# Altium schematic symbol library kmilo17pet-LT_PMIC_LT.SchLib: 2252 symbols (part 68 of 124)
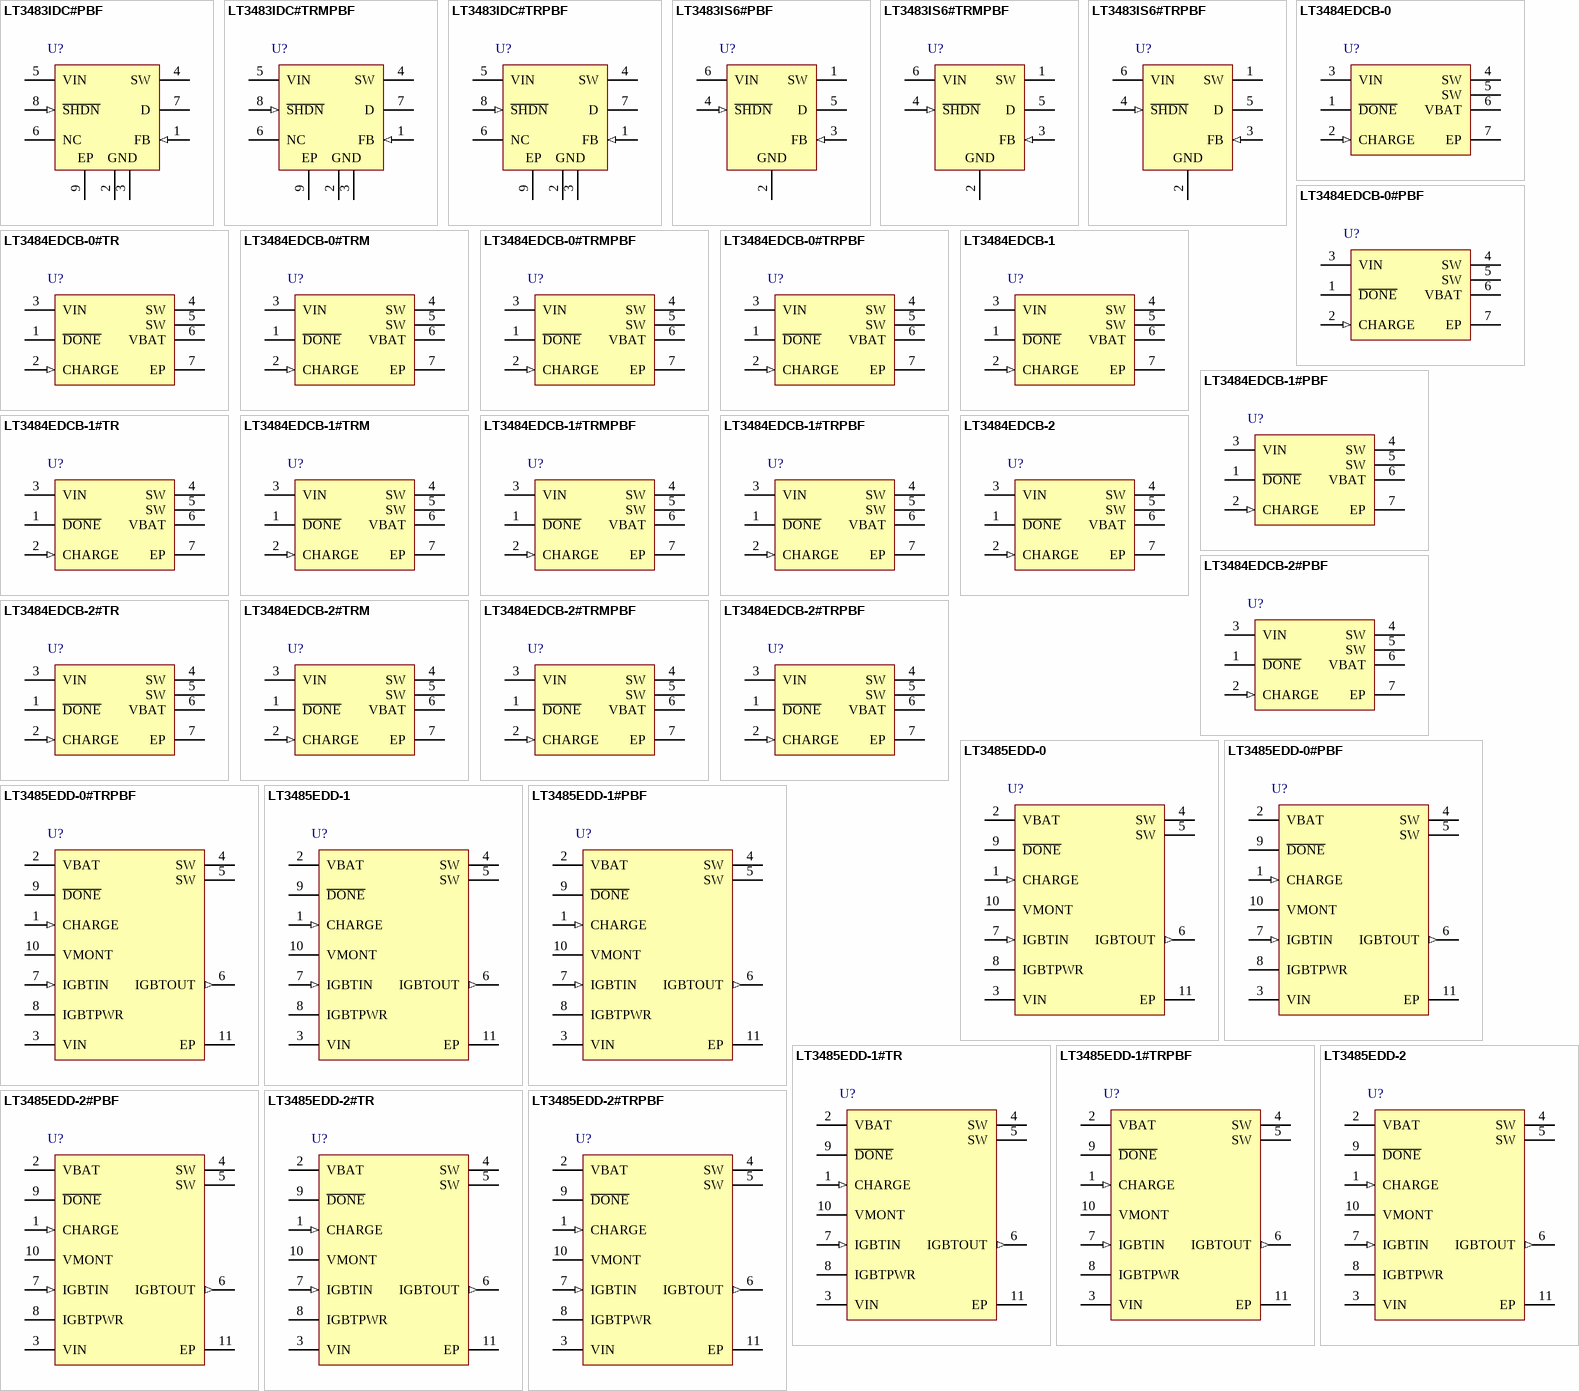
[diagram p138: symbols LT3483IDC#PBF to LT3485EDD-2#TRPBF]

## LT3484EDCB-2#TR
designator U?
Photoflash Capacitor Charger, 6-pin SON (DCB-6), -40 to 85 degC, Tape and Reel; Manufacturer: Linear Technology; PartNumber: LT3484EDCB-2#TR; Number of Outputs: 1; PackageReference: DCB-6; PackageDescription: 6-Pin Plastic DFN, Body 2 x 3 mm, Pitch 0.5 mm; Supplier 1: Digi-Key; Supplier Part Number 1: LT3484EDCB-2#TR-ND; RoHS: FALSE
footprint LT-DCB-6_V (SON, 6-Leads, Body 3x2mm, Pitch 0.5mm, Thermal Pad 1.65x1.35mm)
pins: 1 ~{DONE} (oc) "Open NPN Collector Indication Pin. When target output voltage is reached, NPN turns on, pulling Pin 1 low. This pin needs a pull-up resistor or current source.", 2 CHARGE (in) "Charge Pin. A low (<0.3V) to high (>1V) transition on this pin puts the part into power delivery mode. Once the target voltage is reached, the part will stop charging the output. Toggle this pin to start charging again. (See Datasheet)", 3 VIN (power) "Input Supply Pin. Must be locally bypassed with a good quality ceramic capacitor. Input supply must be 2.5V or higher.", 4 SW (power) "Switch Pins. These are the collector of the internal NPN Power switch. Tie these pins together on the PC Board. Minimize the metal trace area connected to these pins to minimize EMI. Tie one side of the primary of the (See Datasheet)", 5 SW (power) "Switch Pins. These are the collector of the internal NPN Power switch. Tie these pins together on the PC Board. Minimize the metal trace area connected to these pins to minimize EMI. Tie one side of the primary of the (See Datasheet)", 6 VBAT (power) "Battery Supply Pin. Must be locally bypassed with a good quality ceramic capacitor. Battery supply must be 1.7V or higher. The other terminal of the transformer primary must be connected to VBAT.", 7 EP (power) "Ground. Tie directly to local ground plane."

## LT3484EDCB-2#TRM
designator U?
Photoflash Capacitor Charger, 6-pin SON (DCB-6), -40 to 85 degC, Mini Tape and Reel; Manufacturer: Linear Technology; PartNumber: LT3484EDCB-2#TRM; Number of Outputs: 1; PackageReference: DCB-6; PackageDescription: 6-Pin Plastic DFN, Body 2 x 3 mm, Pitch 0.5 mm; Supplier 1: Digi-Key; Supplier Part Number 1: LT3484EDCB-2#TRM-ND; RoHS: FALSE
footprint LT-DCB-6_V (SON, 6-Leads, Body 3x2mm, Pitch 0.5mm, Thermal Pad 1.65x1.35mm)
pins: 1 ~{DONE} (oc) "Open NPN Collector Indication Pin. When target output voltage is reached, NPN turns on, pulling Pin 1 low. This pin needs a pull-up resistor or current source.", 2 CHARGE (in) "Charge Pin. A low (<0.3V) to high (>1V) transition on this pin puts the part into power delivery mode. Once the target voltage is reached, the part will stop charging the output. Toggle this pin to start charging again. (See Datasheet)", 3 VIN (power) "Input Supply Pin. Must be locally bypassed with a good quality ceramic capacitor. Input supply must be 2.5V or higher.", 4 SW (power) "Switch Pins. These are the collector of the internal NPN Power switch. Tie these pins together on the PC Board. Minimize the metal trace area connected to these pins to minimize EMI. Tie one side of the primary of the (See Datasheet)", 5 SW (power) "Switch Pins. These are the collector of the internal NPN Power switch. Tie these pins together on the PC Board. Minimize the metal trace area connected to these pins to minimize EMI. Tie one side of the primary of the (See Datasheet)", 6 VBAT (power) "Battery Supply Pin. Must be locally bypassed with a good quality ceramic capacitor. Battery supply must be 1.7V or higher. The other terminal of the transformer primary must be connected to VBAT.", 7 EP (power) "Ground. Tie directly to local ground plane."

## LT3484EDCB-2#TRMPBF
designator U?
Photoflash Capacitor Charger, 6-pin SON (DCB-6), -40 to 85 degC, Pb-Free, Mini Tape and Reel; Manufacturer: Linear Technology; PartNumber: LT3484EDCB-2#TRMPBF; Number of Outputs: 1; PackageReference: DCB-6; PackageDescription: 6-Pin Plastic DFN, Body 2 x 3 mm, Pitch 0.5 mm; Supplier 1: Digi-Key; Supplier Part Number 1: LT3484EDCB-2#TRMPBFTR-ND; RoHS: TRUE
footprint LT-DCB-6_V (SON, 6-Leads, Body 3x2mm, Pitch 0.5mm, Thermal Pad 1.65x1.35mm)
pins: 1 ~{DONE} (oc) "Open NPN Collector Indication Pin. When target output voltage is reached, NPN turns on, pulling Pin 1 low. This pin needs a pull-up resistor or current source.", 2 CHARGE (in) "Charge Pin. A low (<0.3V) to high (>1V) transition on this pin puts the part into power delivery mode. Once the target voltage is reached, the part will stop charging the output. Toggle this pin to start charging again. (See Datasheet)", 3 VIN (power) "Input Supply Pin. Must be locally bypassed with a good quality ceramic capacitor. Input supply must be 2.5V or higher.", 4 SW (power) "Switch Pins. These are the collector of the internal NPN Power switch. Tie these pins together on the PC Board. Minimize the metal trace area connected to these pins to minimize EMI. Tie one side of the primary of the (See Datasheet)", 5 SW (power) "Switch Pins. These are the collector of the internal NPN Power switch. Tie these pins together on the PC Board. Minimize the metal trace area connected to these pins to minimize EMI. Tie one side of the primary of the (See Datasheet)", 6 VBAT (power) "Battery Supply Pin. Must be locally bypassed with a good quality ceramic capacitor. Battery supply must be 1.7V or higher. The other terminal of the transformer primary must be connected to VBAT.", 7 EP (power) "Ground. Tie directly to local ground plane."

## LT3484EDCB-2#TRPBF
designator U?
Photoflash Capacitor Charger, 6-pin SON (DCB-6), -40 to 85 degC, Pb-Free, Tape and Reel; Manufacturer: Linear Technology; PartNumber: LT3484EDCB-2#TRPBF; Number of Outputs: 1; PackageReference: DCB-6; PackageDescription: 6-Pin Plastic DFN, Body 2 x 3 mm, Pitch 0.5 mm; Supplier 1: Digi-Key; Supplier Part Number 1: LT3484EDCB-2#TRPBF-ND; RoHS: TRUE
footprint LT-DCB-6_V (SON, 6-Leads, Body 3x2mm, Pitch 0.5mm, Thermal Pad 1.65x1.35mm)
pins: 1 ~{DONE} (oc) "Open NPN Collector Indication Pin. When target output voltage is reached, NPN turns on, pulling Pin 1 low. This pin needs a pull-up resistor or current source.", 2 CHARGE (in) "Charge Pin. A low (<0.3V) to high (>1V) transition on this pin puts the part into power delivery mode. Once the target voltage is reached, the part will stop charging the output. Toggle this pin to start charging again. (See Datasheet)", 3 VIN (power) "Input Supply Pin. Must be locally bypassed with a good quality ceramic capacitor. Input supply must be 2.5V or higher.", 4 SW (power) "Switch Pins. These are the collector of the internal NPN Power switch. Tie these pins together on the PC Board. Minimize the metal trace area connected to these pins to minimize EMI. Tie one side of the primary of the (See Datasheet)", 5 SW (power) "Switch Pins. These are the collector of the internal NPN Power switch. Tie these pins together on the PC Board. Minimize the metal trace area connected to these pins to minimize EMI. Tie one side of the primary of the (See Datasheet)", 6 VBAT (power) "Battery Supply Pin. Must be locally bypassed with a good quality ceramic capacitor. Battery supply must be 1.7V or higher. The other terminal of the transformer primary must be connected to VBAT.", 7 EP (power) "Ground. Tie directly to local ground plane."

## LT3485EDD-0
designator U?
Photoflash Capacitor Chargers with Output Voltage Monitor and Integrated IGBT Drive, 10-pin SON (DD-10), -40 to 85 degC; Manufacturer: Linear Technology; PartNumber: LT3485EDD-0; Number of Outputs: 1; PackageReference: DD-10; PackageDescription: 10-Pin Plastic DFN, Body 3 x 3 mm, Pitch 0.5 mm; RoHS: FALSE
footprint LT-DD-10_V (SON, 10-Leads, Body 3x3mm, Pitch 0.5mm, Thermal Pad 2.38x1.65mm)
pins: 1 CHARGE (in) "Charge Pin. A low (<0.3V) to high (>1V) transition on this pin puts the part into power delivery mode. Once the target voltage is reached, the part will stop charging the output. Toggle this pin to start charging again. (See Datasheet)", 2 VBAT (power) "Battery Supply Pin. Must be locally bypassed with a good quality ceramic capacitor. Battery supply must be 1.7V or higher.", 3 VIN (power) "Input Supply Pin. Must be locally bypassed with a good quality ceramic capacitor. Input supply must be 2.5V or higher.", 4 SW (power) "Switch Pin. This is the collector of the internal NPN power switch. Minimize the metal trace area connected to this pin to minimize EMI. Tie one side of the primary of the transformer to this pin. The target output voltage (See Datasheet)", 5 SW (power) "Switch Pin. This is the collector of the internal NPN power switch. Minimize the metal trace area connected to this pin to minimize EMI. Tie one side of the primary of the transformer to this pin. The target output voltage (See Datasheet)", 6 IGBTOUT (out) "Output Drive for IGBT Gate. Connect this pin to the gate of the IGBT.", 7 IGBTIN (in) "Logic Input Pin for IGBT Drive. When this pin is driven higher than 1.5V, the IGBT output pin goes high. When the pin is below 0.3V, the output is low.", 8 IGBTPWR (power) "Input Supply Pin. Must be locally bypassed with a good quality ceramic capacitor. Input supply must be 0.1V higher than the turn-on voltage for the IGBT.", 9 ~{DONE} (oc) "Open NPN Collector Indication Pin. When target output voltage is reached, NPN turns on. This pin needs a pull-up resistor or current source.", 10 VMONT (power) "Supplies a voltage proportional to the output voltage where 1V is the end of charge voltage. Only valid while the part is charging.", 11 EP (power) "Ground. Tie directly to local ground plane"

## LT3485EDD-0#PBF
designator U?
Photoflash Capacitor Chargers with Output Voltage Monitor and Integrated IGBT Drive, 10-pin SON (DD-10), -40 to 85 degC, Pb-Free; Manufacturer: Linear Technology; PartNumber: LT3485EDD-0#PBF; Number of Outputs: 1; PackageReference: DD-10; PackageDescription: 10-Pin Plastic DFN, Body 3 x 3 mm, Pitch 0.5 mm; Supplier 1: Digi-Key; Supplier Part Number 1: LT3485EDD-0#PBF-ND; RoHS: TRUE
footprint LT-DD-10_V (SON, 10-Leads, Body 3x3mm, Pitch 0.5mm, Thermal Pad 2.38x1.65mm)
pins: 1 CHARGE (in) "Charge Pin. A low (<0.3V) to high (>1V) transition on this pin puts the part into power delivery mode. Once the target voltage is reached, the part will stop charging the output. Toggle this pin to start charging again. (See Datasheet)", 2 VBAT (power) "Battery Supply Pin. Must be locally bypassed with a good quality ceramic capacitor. Battery supply must be 1.7V or higher.", 3 VIN (power) "Input Supply Pin. Must be locally bypassed with a good quality ceramic capacitor. Input supply must be 2.5V or higher.", 4 SW (power) "Switch Pin. This is the collector of the internal NPN power switch. Minimize the metal trace area connected to this pin to minimize EMI. Tie one side of the primary of the transformer to this pin. The target output voltage (See Datasheet)", 5 SW (power) "Switch Pin. This is the collector of the internal NPN power switch. Minimize the metal trace area connected to this pin to minimize EMI. Tie one side of the primary of the transformer to this pin. The target output voltage (See Datasheet)", 6 IGBTOUT (out) "Output Drive for IGBT Gate. Connect this pin to the gate of the IGBT.", 7 IGBTIN (in) "Logic Input Pin for IGBT Drive. When this pin is driven higher than 1.5V, the IGBT output pin goes high. When the pin is below 0.3V, the output is low.", 8 IGBTPWR (power) "Input Supply Pin. Must be locally bypassed with a good quality ceramic capacitor. Input supply must be 0.1V higher than the turn-on voltage for the IGBT.", 9 ~{DONE} (oc) "Open NPN Collector Indication Pin. When target output voltage is reached, NPN turns on. This pin needs a pull-up resistor or current source.", 10 VMONT (power) "Supplies a voltage proportional to the output voltage where 1V is the end of charge voltage. Only valid while the part is charging.", 11 EP (power) "Ground. Tie directly to local ground plane"

## LT3485EDD-0#TRPBF
designator U?
Photoflash Capacitor Chargers with Output Voltage Monitor and Integrated IGBT Drive, 10-pin SON (DD-10), -40 to 85 degC, Pb-Free, Tape and Reel; Manufacturer: Linear Technology; PartNumber: LT3485EDD-0#TRPBF; Number of Outputs: 1; PackageReference: DD-10; PackageDescription: 10-Pin Plastic DFN, Body 3 x 3 mm, Pitch 0.5 mm; Supplier 1: Digi-Key; Supplier Part Number 1: LT3485EDD-0#TRPBF-ND; RoHS: TRUE
footprint LT-DD-10_V (SON, 10-Leads, Body 3x3mm, Pitch 0.5mm, Thermal Pad 2.38x1.65mm)
pins: 1 CHARGE (in) "Charge Pin. A low (<0.3V) to high (>1V) transition on this pin puts the part into power delivery mode. Once the target voltage is reached, the part will stop charging the output. Toggle this pin to start charging again. (See Datasheet)", 2 VBAT (power) "Battery Supply Pin. Must be locally bypassed with a good quality ceramic capacitor. Battery supply must be 1.7V or higher.", 3 VIN (power) "Input Supply Pin. Must be locally bypassed with a good quality ceramic capacitor. Input supply must be 2.5V or higher.", 4 SW (power) "Switch Pin. This is the collector of the internal NPN power switch. Minimize the metal trace area connected to this pin to minimize EMI. Tie one side of the primary of the transformer to this pin. The target output voltage (See Datasheet)", 5 SW (power) "Switch Pin. This is the collector of the internal NPN power switch. Minimize the metal trace area connected to this pin to minimize EMI. Tie one side of the primary of the transformer to this pin. The target output voltage (See Datasheet)", 6 IGBTOUT (out) "Output Drive for IGBT Gate. Connect this pin to the gate of the IGBT.", 7 IGBTIN (in) "Logic Input Pin for IGBT Drive. When this pin is driven higher than 1.5V, the IGBT output pin goes high. When the pin is below 0.3V, the output is low.", 8 IGBTPWR (power) "Input Supply Pin. Must be locally bypassed with a good quality ceramic capacitor. Input supply must be 0.1V higher than the turn-on voltage for the IGBT.", 9 ~{DONE} (oc) "Open NPN Collector Indication Pin. When target output voltage is reached, NPN turns on. This pin needs a pull-up resistor or current source.", 10 VMONT (power) "Supplies a voltage proportional to the output voltage where 1V is the end of charge voltage. Only valid while the part is charging.", 11 EP (power) "Ground. Tie directly to local ground plane"

## LT3485EDD-1
designator U?
Photoflash Capacitor Chargers with Output Voltage Monitor and Integrated IGBT Drive, 10-pin SON (DD-10), -40 to 85 degC; Manufacturer: Linear Technology; PartNumber: LT3485EDD-1; Number of Outputs: 1; PackageReference: DD-10; PackageDescription: 10-Pin Plastic DFN, Body 3 x 3 mm, Pitch 0.5 mm; RoHS: FALSE
footprint LT-DD-10_V (SON, 10-Leads, Body 3x3mm, Pitch 0.5mm, Thermal Pad 2.38x1.65mm)
pins: 1 CHARGE (in) "Charge Pin. A low (<0.3V) to high (>1V) transition on this pin puts the part into power delivery mode. Once the target voltage is reached, the part will stop charging the output. Toggle this pin to start charging again. (See Datasheet)", 2 VBAT (power) "Battery Supply Pin. Must be locally bypassed with a good quality ceramic capacitor. Battery supply must be 1.7V or higher.", 3 VIN (power) "Input Supply Pin. Must be locally bypassed with a good quality ceramic capacitor. Input supply must be 2.5V or higher.", 4 SW (power) "Switch Pin. This is the collector of the internal NPN power switch. Minimize the metal trace area connected to this pin to minimize EMI. Tie one side of the primary of the transformer to this pin. The target output voltage (See Datasheet)", 5 SW (power) "Switch Pin. This is the collector of the internal NPN power switch. Minimize the metal trace area connected to this pin to minimize EMI. Tie one side of the primary of the transformer to this pin. The target output voltage (See Datasheet)", 6 IGBTOUT (out) "Output Drive for IGBT Gate. Connect this pin to the gate of the IGBT.", 7 IGBTIN (in) "Logic Input Pin for IGBT Drive. When this pin is driven higher than 1.5V, the IGBT output pin goes high. When the pin is below 0.3V, the output is low.", 8 IGBTPWR (power) "Input Supply Pin. Must be locally bypassed with a good quality ceramic capacitor. Input supply must be 0.1V higher than the turn-on voltage for the IGBT.", 9 ~{DONE} (oc) "Open NPN Collector Indication Pin. When target output voltage is reached, NPN turns on. This pin needs a pull-up resistor or current source.", 10 VMONT (power) "Supplies a voltage proportional to the output voltage where 1V is the end of charge voltage. Only valid while the part is charging.", 11 EP (power) "Ground. Tie directly to local ground plane"

## LT3485EDD-1#PBF
designator U?
Photoflash Capacitor Chargers with Output Voltage Monitor and Integrated IGBT Drive, 10-pin SON (DD-10), -40 to 85 degC, Pb-Free; Manufacturer: Linear Technology; PartNumber: LT3485EDD-1#PBF; Number of Outputs: 1; PackageReference: DD-10; PackageDescription: 10-Pin Plastic DFN, Body 3 x 3 mm, Pitch 0.5 mm; Supplier 1: Digi-Key; Supplier Part Number 1: LT3485EDD-1#PBF-ND; RoHS: TRUE
footprint LT-DD-10_V (SON, 10-Leads, Body 3x3mm, Pitch 0.5mm, Thermal Pad 2.38x1.65mm)
pins: 1 CHARGE (in) "Charge Pin. A low (<0.3V) to high (>1V) transition on this pin puts the part into power delivery mode. Once the target voltage is reached, the part will stop charging the output. Toggle this pin to start charging again. (See Datasheet)", 2 VBAT (power) "Battery Supply Pin. Must be locally bypassed with a good quality ceramic capacitor. Battery supply must be 1.7V or higher.", 3 VIN (power) "Input Supply Pin. Must be locally bypassed with a good quality ceramic capacitor. Input supply must be 2.5V or higher.", 4 SW (power) "Switch Pin. This is the collector of the internal NPN power switch. Minimize the metal trace area connected to this pin to minimize EMI. Tie one side of the primary of the transformer to this pin. The target output voltage (See Datasheet)", 5 SW (power) "Switch Pin. This is the collector of the internal NPN power switch. Minimize the metal trace area connected to this pin to minimize EMI. Tie one side of the primary of the transformer to this pin. The target output voltage (See Datasheet)", 6 IGBTOUT (out) "Output Drive for IGBT Gate. Connect this pin to the gate of the IGBT.", 7 IGBTIN (in) "Logic Input Pin for IGBT Drive. When this pin is driven higher than 1.5V, the IGBT output pin goes high. When the pin is below 0.3V, the output is low.", 8 IGBTPWR (power) "Input Supply Pin. Must be locally bypassed with a good quality ceramic capacitor. Input supply must be 0.1V higher than the turn-on voltage for the IGBT.", 9 ~{DONE} (oc) "Open NPN Collector Indication Pin. When target output voltage is reached, NPN turns on. This pin needs a pull-up resistor or current source.", 10 VMONT (power) "Supplies a voltage proportional to the output voltage where 1V is the end of charge voltage. Only valid while the part is charging.", 11 EP (power) "Ground. Tie directly to local ground plane"

## LT3485EDD-1#TR
designator U?
Photoflash Capacitor Chargers with Output Voltage Monitor and Integrated IGBT Drive, 10-pin SON (DD-10), -40 to 85 degC, Tape and Reel; Manufacturer: Linear Technology; PartNumber: LT3485EDD-1#TR; Number of Outputs: 1; PackageReference: DD-10; PackageDescription: 10-Pin Plastic DFN, Body 3 x 3 mm, Pitch 0.5 mm; RoHS: FALSE
footprint LT-DD-10_V (SON, 10-Leads, Body 3x3mm, Pitch 0.5mm, Thermal Pad 2.38x1.65mm)
pins: 1 CHARGE (in) "Charge Pin. A low (<0.3V) to high (>1V) transition on this pin puts the part into power delivery mode. Once the target voltage is reached, the part will stop charging the output. Toggle this pin to start charging again. (See Datasheet)", 2 VBAT (power) "Battery Supply Pin. Must be locally bypassed with a good quality ceramic capacitor. Battery supply must be 1.7V or higher.", 3 VIN (power) "Input Supply Pin. Must be locally bypassed with a good quality ceramic capacitor. Input supply must be 2.5V or higher.", 4 SW (power) "Switch Pin. This is the collector of the internal NPN power switch. Minimize the metal trace area connected to this pin to minimize EMI. Tie one side of the primary of the transformer to this pin. The target output voltage (See Datasheet)", 5 SW (power) "Switch Pin. This is the collector of the internal NPN power switch. Minimize the metal trace area connected to this pin to minimize EMI. Tie one side of the primary of the transformer to this pin. The target output voltage (See Datasheet)", 6 IGBTOUT (out) "Output Drive for IGBT Gate. Connect this pin to the gate of the IGBT.", 7 IGBTIN (in) "Logic Input Pin for IGBT Drive. When this pin is driven higher than 1.5V, the IGBT output pin goes high. When the pin is below 0.3V, the output is low.", 8 IGBTPWR (power) "Input Supply Pin. Must be locally bypassed with a good quality ceramic capacitor. Input supply must be 0.1V higher than the turn-on voltage for the IGBT.", 9 ~{DONE} (oc) "Open NPN Collector Indication Pin. When target output voltage is reached, NPN turns on. This pin needs a pull-up resistor or current source.", 10 VMONT (power) "Supplies a voltage proportional to the output voltage where 1V is the end of charge voltage. Only valid while the part is charging.", 11 EP (power) "Ground. Tie directly to local ground plane"

## LT3485EDD-1#TRPBF
designator U?
Photoflash Capacitor Chargers with Output Voltage Monitor and Integrated IGBT Drive, 10-pin SON (DD-10), -40 to 85 degC, Pb-Free, Tape and Reel; Manufacturer: Linear Technology; PartNumber: LT3485EDD-1#TRPBF; Number of Outputs: 1; PackageReference: DD-10; PackageDescription: 10-Pin Plastic DFN, Body 3 x 3 mm, Pitch 0.5 mm; Supplier 1: Digi-Key; Supplier Part Number 1: LT3485EDD-1#TRPBF-ND; RoHS: TRUE
footprint LT-DD-10_V (SON, 10-Leads, Body 3x3mm, Pitch 0.5mm, Thermal Pad 2.38x1.65mm)
pins: 1 CHARGE (in) "Charge Pin. A low (<0.3V) to high (>1V) transition on this pin puts the part into power delivery mode. Once the target voltage is reached, the part will stop charging the output. Toggle this pin to start charging again. (See Datasheet)", 2 VBAT (power) "Battery Supply Pin. Must be locally bypassed with a good quality ceramic capacitor. Battery supply must be 1.7V or higher.", 3 VIN (power) "Input Supply Pin. Must be locally bypassed with a good quality ceramic capacitor. Input supply must be 2.5V or higher.", 4 SW (power) "Switch Pin. This is the collector of the internal NPN power switch. Minimize the metal trace area connected to this pin to minimize EMI. Tie one side of the primary of the transformer to this pin. The target output voltage (See Datasheet)", 5 SW (power) "Switch Pin. This is the collector of the internal NPN power switch. Minimize the metal trace area connected to this pin to minimize EMI. Tie one side of the primary of the transformer to this pin. The target output voltage (See Datasheet)", 6 IGBTOUT (out) "Output Drive for IGBT Gate. Connect this pin to the gate of the IGBT.", 7 IGBTIN (in) "Logic Input Pin for IGBT Drive. When this pin is driven higher than 1.5V, the IGBT output pin goes high. When the pin is below 0.3V, the output is low.", 8 IGBTPWR (power) "Input Supply Pin. Must be locally bypassed with a good quality ceramic capacitor. Input supply must be 0.1V higher than the turn-on voltage for the IGBT.", 9 ~{DONE} (oc) "Open NPN Collector Indication Pin. When target output voltage is reached, NPN turns on. This pin needs a pull-up resistor or current source.", 10 VMONT (power) "Supplies a voltage proportional to the output voltage where 1V is the end of charge voltage. Only valid while the part is charging.", 11 EP (power) "Ground. Tie directly to local ground plane"

## LT3485EDD-2
designator U?
Photoflash Capacitor Chargers with Output Voltage Monitor and Integrated IGBT Drive, 10-pin SON (DD-10), -40 to 85 degC; Manufacturer: Linear Technology; PartNumber: LT3485EDD-2; Number of Outputs: 1; PackageReference: DD-10; PackageDescription: 10-Pin Plastic DFN, Body 3 x 3 mm, Pitch 0.5 mm; RoHS: FALSE
footprint LT-DD-10_V (SON, 10-Leads, Body 3x3mm, Pitch 0.5mm, Thermal Pad 2.38x1.65mm)
pins: 1 CHARGE (in) "Charge Pin. A low (<0.3V) to high (>1V) transition on this pin puts the part into power delivery mode. Once the target voltage is reached, the part will stop charging the output. Toggle this pin to start charging again. (See Datasheet)", 2 VBAT (power) "Battery Supply Pin. Must be locally bypassed with a good quality ceramic capacitor. Battery supply must be 1.7V or higher.", 3 VIN (power) "Input Supply Pin. Must be locally bypassed with a good quality ceramic capacitor. Input supply must be 2.5V or higher.", 4 SW (power) "Switch Pin. This is the collector of the internal NPN power switch. Minimize the metal trace area connected to this pin to minimize EMI. Tie one side of the primary of the transformer to this pin. The target output voltage (See Datasheet)", 5 SW (power) "Switch Pin. This is the collector of the internal NPN power switch. Minimize the metal trace area connected to this pin to minimize EMI. Tie one side of the primary of the transformer to this pin. The target output voltage (See Datasheet)", 6 IGBTOUT (out) "Output Drive for IGBT Gate. Connect this pin to the gate of the IGBT.", 7 IGBTIN (in) "Logic Input Pin for IGBT Drive. When this pin is driven higher than 1.5V, the IGBT output pin goes high. When the pin is below 0.3V, the output is low.", 8 IGBTPWR (power) "Input Supply Pin. Must be locally bypassed with a good quality ceramic capacitor. Input supply must be 0.1V higher than the turn-on voltage for the IGBT.", 9 ~{DONE} (oc) "Open NPN Collector Indication Pin. When target output voltage is reached, NPN turns on. This pin needs a pull-up resistor or current source.", 10 VMONT (power) "Supplies a voltage proportional to the output voltage where 1V is the end of charge voltage. Only valid while the part is charging.", 11 EP (power) "Ground. Tie directly to local ground plane"

## LT3485EDD-2#PBF
designator U?
Photoflash Capacitor Chargers with Output Voltage Monitor and Integrated IGBT Drive, 10-pin SON (DD-10), -40 to 85 degC, Pb-Free; Manufacturer: Linear Technology; PartNumber: LT3485EDD-2#PBF; Number of Outputs: 1; PackageReference: DD-10; PackageDescription: 10-Pin Plastic DFN, Body 3 x 3 mm, Pitch 0.5 mm; Supplier 1: Digi-Key; Supplier Part Number 1: LT3485EDD-2#PBF-ND; RoHS: TRUE
footprint LT-DD-10_V (SON, 10-Leads, Body 3x3mm, Pitch 0.5mm, Thermal Pad 2.38x1.65mm)
pins: 1 CHARGE (in) "Charge Pin. A low (<0.3V) to high (>1V) transition on this pin puts the part into power delivery mode. Once the target voltage is reached, the part will stop charging the output. Toggle this pin to start charging again. (See Datasheet)", 2 VBAT (power) "Battery Supply Pin. Must be locally bypassed with a good quality ceramic capacitor. Battery supply must be 1.7V or higher.", 3 VIN (power) "Input Supply Pin. Must be locally bypassed with a good quality ceramic capacitor. Input supply must be 2.5V or higher.", 4 SW (power) "Switch Pin. This is the collector of the internal NPN power switch. Minimize the metal trace area connected to this pin to minimize EMI. Tie one side of the primary of the transformer to this pin. The target output voltage (See Datasheet)", 5 SW (power) "Switch Pin. This is the collector of the internal NPN power switch. Minimize the metal trace area connected to this pin to minimize EMI. Tie one side of the primary of the transformer to this pin. The target output voltage (See Datasheet)", 6 IGBTOUT (out) "Output Drive for IGBT Gate. Connect this pin to the gate of the IGBT.", 7 IGBTIN (in) "Logic Input Pin for IGBT Drive. When this pin is driven higher than 1.5V, the IGBT output pin goes high. When the pin is below 0.3V, the output is low.", 8 IGBTPWR (power) "Input Supply Pin. Must be locally bypassed with a good quality ceramic capacitor. Input supply must be 0.1V higher than the turn-on voltage for the IGBT.", 9 ~{DONE} (oc) "Open NPN Collector Indication Pin. When target output voltage is reached, NPN turns on. This pin needs a pull-up resistor or current source.", 10 VMONT (power) "Supplies a voltage proportional to the output voltage where 1V is the end of charge voltage. Only valid while the part is charging.", 11 EP (power) "Ground. Tie directly to local ground plane"

## LT3485EDD-2#TR
designator U?
Photoflash Capacitor Chargers with Output Voltage Monitor and Integrated IGBT Drive, 10-pin SON (DD-10), -40 to 85 degC, Tape and Reel; Manufacturer: Linear Technology; PartNumber: LT3485EDD-2#TR; Number of Outputs: 1; PackageReference: DD-10; PackageDescription: 10-Pin Plastic DFN, Body 3 x 3 mm, Pitch 0.5 mm; RoHS: FALSE
footprint LT-DD-10_V (SON, 10-Leads, Body 3x3mm, Pitch 0.5mm, Thermal Pad 2.38x1.65mm)
pins: 1 CHARGE (in) "Charge Pin. A low (<0.3V) to high (>1V) transition on this pin puts the part into power delivery mode. Once the target voltage is reached, the part will stop charging the output. Toggle this pin to start charging again. (See Datasheet)", 2 VBAT (power) "Battery Supply Pin. Must be locally bypassed with a good quality ceramic capacitor. Battery supply must be 1.7V or higher.", 3 VIN (power) "Input Supply Pin. Must be locally bypassed with a good quality ceramic capacitor. Input supply must be 2.5V or higher.", 4 SW (power) "Switch Pin. This is the collector of the internal NPN power switch. Minimize the metal trace area connected to this pin to minimize EMI. Tie one side of the primary of the transformer to this pin. The target output voltage (See Datasheet)", 5 SW (power) "Switch Pin. This is the collector of the internal NPN power switch. Minimize the metal trace area connected to this pin to minimize EMI. Tie one side of the primary of the transformer to this pin. The target output voltage (See Datasheet)", 6 IGBTOUT (out) "Output Drive for IGBT Gate. Connect this pin to the gate of the IGBT.", 7 IGBTIN (in) "Logic Input Pin for IGBT Drive. When this pin is driven higher than 1.5V, the IGBT output pin goes high. When the pin is below 0.3V, the output is low.", 8 IGBTPWR (power) "Input Supply Pin. Must be locally bypassed with a good quality ceramic capacitor. Input supply must be 0.1V higher than the turn-on voltage for the IGBT.", 9 ~{DONE} (oc) "Open NPN Collector Indication Pin. When target output voltage is reached, NPN turns on. This pin needs a pull-up resistor or current source.", 10 VMONT (power) "Supplies a voltage proportional to the output voltage where 1V is the end of charge voltage. Only valid while the part is charging.", 11 EP (power) "Ground. Tie directly to local ground plane"

## LT3485EDD-2#TRPBF
designator U?
Photoflash Capacitor Chargers with Output Voltage Monitor and Integrated IGBT Drive, 10-pin SON (DD-10), -40 to 85 degC, Pb-Free, Tape and Reel; Manufacturer: Linear Technology; PartNumber: LT3485EDD-2#TRPBF; Number of Outputs: 1; PackageReference: DD-10; PackageDescription: 10-Pin Plastic DFN, Body 3 x 3 mm, Pitch 0.5 mm; Supplier 1: Digi-Key; Supplier Part Number 1: LT3485EDD-2#TRPBF-ND; RoHS: TRUE
footprint LT-DD-10_V (SON, 10-Leads, Body 3x3mm, Pitch 0.5mm, Thermal Pad 2.38x1.65mm)
pins: 1 CHARGE (in) "Charge Pin. A low (<0.3V) to high (>1V) transition on this pin puts the part into power delivery mode. Once the target voltage is reached, the part will stop charging the output. Toggle this pin to start charging again. (See Datasheet)", 2 VBAT (power) "Battery Supply Pin. Must be locally bypassed with a good quality ceramic capacitor. Battery supply must be 1.7V or higher.", 3 VIN (power) "Input Supply Pin. Must be locally bypassed with a good quality ceramic capacitor. Input supply must be 2.5V or higher.", 4 SW (power) "Switch Pin. This is the collector of the internal NPN power switch. Minimize the metal trace area connected to this pin to minimize EMI. Tie one side of the primary of the transformer to this pin. The target output voltage (See Datasheet)", 5 SW (power) "Switch Pin. This is the collector of the internal NPN power switch. Minimize the metal trace area connected to this pin to minimize EMI. Tie one side of the primary of the transformer to this pin. The target output voltage (See Datasheet)", 6 IGBTOUT (out) "Output Drive for IGBT Gate. Connect this pin to the gate of the IGBT.", 7 IGBTIN (in) "Logic Input Pin for IGBT Drive. When this pin is driven higher than 1.5V, the IGBT output pin goes high. When the pin is below 0.3V, the output is low.", 8 IGBTPWR (power) "Input Supply Pin. Must be locally bypassed with a good quality ceramic capacitor. Input supply must be 0.1V higher than the turn-on voltage for the IGBT.", 9 ~{DONE} (oc) "Open NPN Collector Indication Pin. When target output voltage is reached, NPN turns on. This pin needs a pull-up resistor or current source.", 10 VMONT (power) "Supplies a voltage proportional to the output voltage where 1V is the end of charge voltage. Only valid while the part is charging.", 11 EP (power) "Ground. Tie directly to local ground plane"

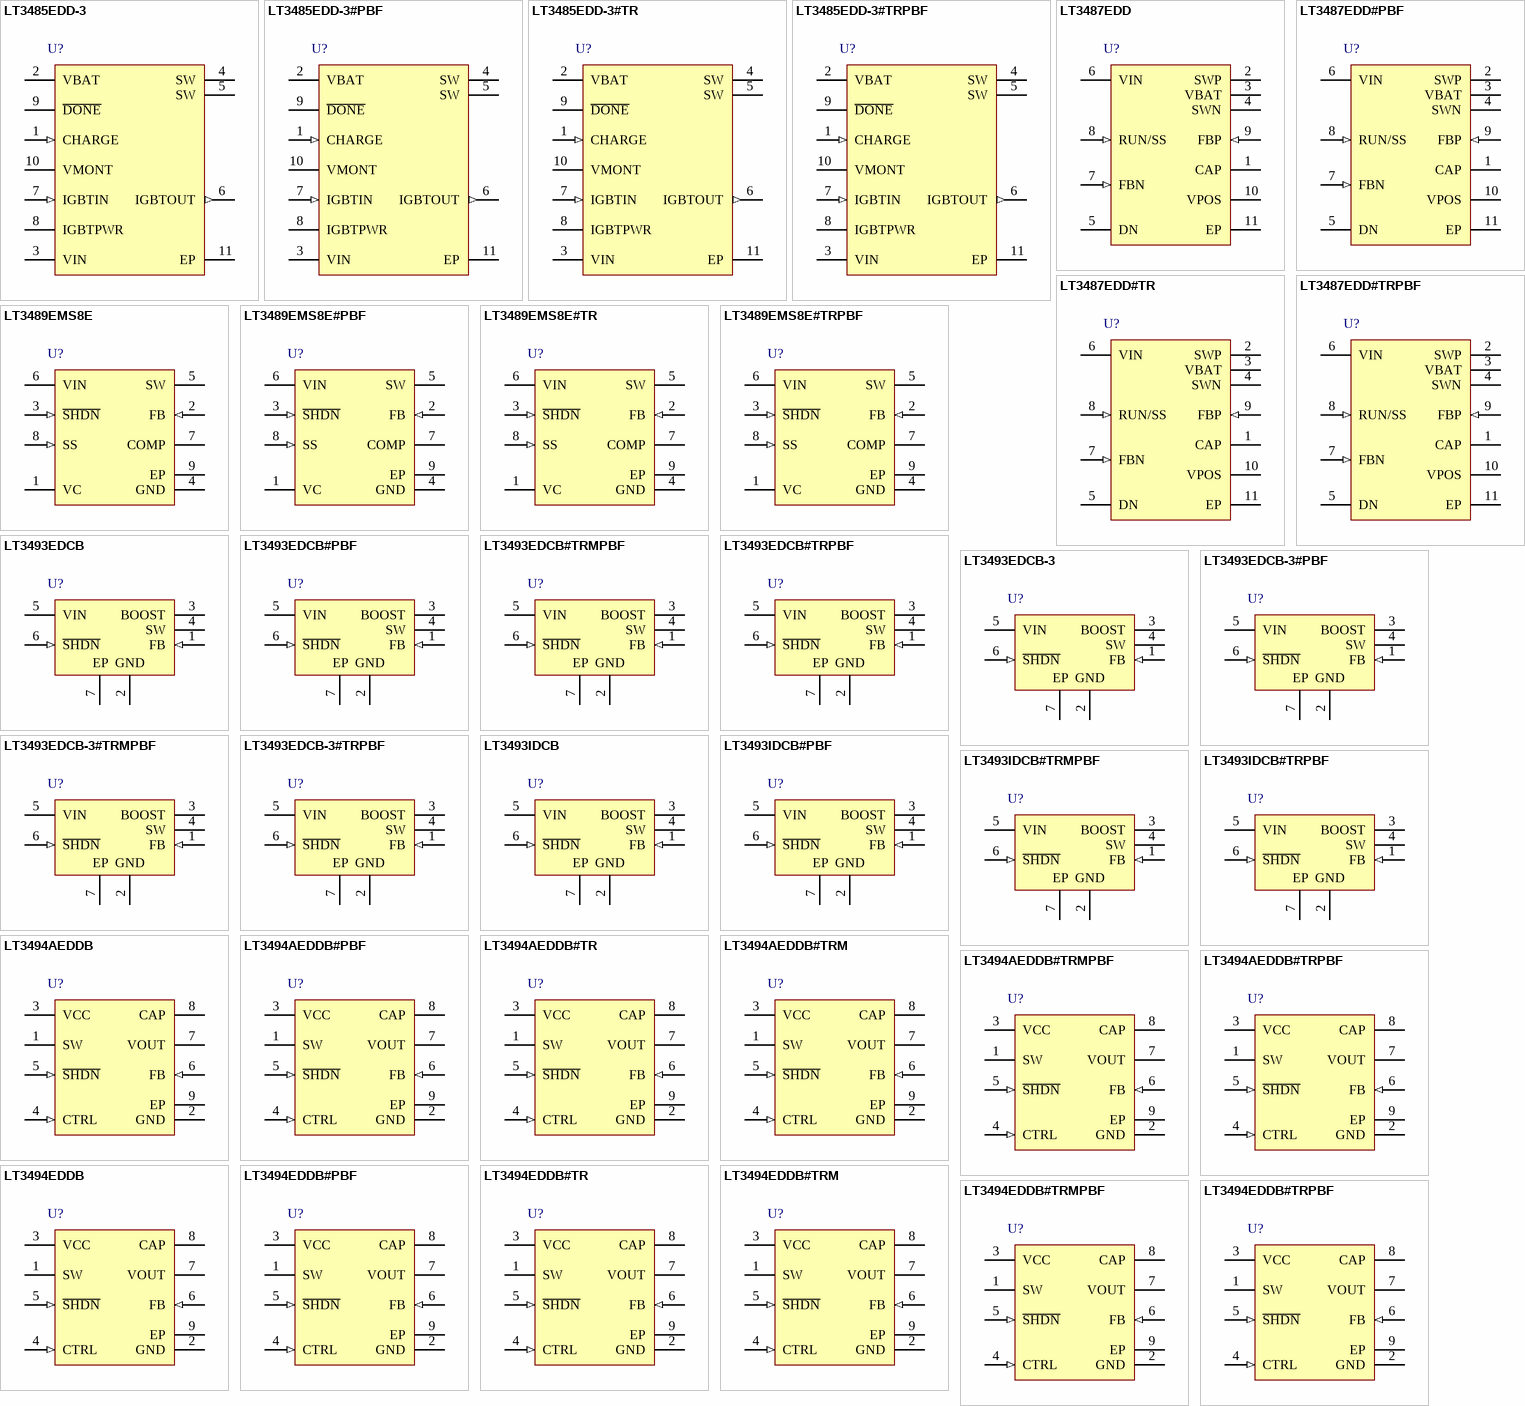
[diagram p42: symbols LT3485EDD-3 to LT3494EDDB#TRPBF]

## LT3485EDD-3
designator U?
Photoflash Capacitor Chargers with Output Voltage Monitor and Integrated IGBT Drive, 10-pin SON (DD-10), -40 to 85 degC; Manufacturer: Linear Technology; PartNumber: LT3485EDD-3; Number of Outputs: 1; PackageReference: DD-10; PackageDescription: 10-Pin Plastic DFN, Body 3 x 3 mm, Pitch 0.5 mm; RoHS: FALSE
footprint LT-DD-10_V (SON, 10-Leads, Body 3x3mm, Pitch 0.5mm, Thermal Pad 2.38x1.65mm)
pins: 1 CHARGE (in) "Charge Pin. A low (<0.3V) to high (>1V) transition on this pin puts the part into power delivery mode. Once the target voltage is reached, the part will stop charging the output. Toggle this pin to start charging again. (See Datasheet)", 2 VBAT (power) "Battery Supply Pin. Must be locally bypassed with a good quality ceramic capacitor. Battery supply must be 1.7V or higher.", 3 VIN (power) "Input Supply Pin. Must be locally bypassed with a good quality ceramic capacitor. Input supply must be 2.5V or higher.", 4 SW (power) "Switch Pin. This is the collector of the internal NPN power switch. Minimize the metal trace area connected to this pin to minimize EMI. Tie one side of the primary of the transformer to this pin. The target output voltage (See Datasheet)", 5 SW (power) "Switch Pin. This is the collector of the internal NPN power switch. Minimize the metal trace area connected to this pin to minimize EMI. Tie one side of the primary of the transformer to this pin. The target output voltage (See Datasheet)", 6 IGBTOUT (out) "Output Drive for IGBT Gate. Connect this pin to the gate of the IGBT.", 7 IGBTIN (in) "Logic Input Pin for IGBT Drive. When this pin is driven higher than 1.5V, the IGBT output pin goes high. When the pin is below 0.3V, the output is low.", 8 IGBTPWR (power) "Input Supply Pin. Must be locally bypassed with a good quality ceramic capacitor. Input supply must be 0.1V higher than the turn-on voltage for the IGBT.", 9 ~{DONE} (oc) "Open NPN Collector Indication Pin. When target output voltage is reached, NPN turns on. This pin needs a pull-up resistor or current source.", 10 VMONT (power) "Supplies a voltage proportional to the output voltage where 1V is the end of charge voltage. Only valid while the part is charging.", 11 EP (power) "Ground. Tie directly to local ground plane"

## LT3485EDD-3#PBF
designator U?
Photoflash Capacitor Chargers with Output Voltage Monitor and Integrated IGBT Drive, 10-pin SON (DD-10), -40 to 85 degC, Pb-Free; Manufacturer: Linear Technology; PartNumber: LT3485EDD-3#PBF; Number of Outputs: 1; PackageReference: DD-10; PackageDescription: 10-Pin Plastic DFN, Body 3 x 3 mm, Pitch 0.5 mm; Supplier 1: Digi-Key; Supplier Part Number 1: LT3485EDD-3#PBF-ND; RoHS: TRUE
footprint LT-DD-10_V (SON, 10-Leads, Body 3x3mm, Pitch 0.5mm, Thermal Pad 2.38x1.65mm)
pins: 1 CHARGE (in) "Charge Pin. A low (<0.3V) to high (>1V) transition on this pin puts the part into power delivery mode. Once the target voltage is reached, the part will stop charging the output. Toggle this pin to start charging again. (See Datasheet)", 2 VBAT (power) "Battery Supply Pin. Must be locally bypassed with a good quality ceramic capacitor. Battery supply must be 1.7V or higher.", 3 VIN (power) "Input Supply Pin. Must be locally bypassed with a good quality ceramic capacitor. Input supply must be 2.5V or higher.", 4 SW (power) "Switch Pin. This is the collector of the internal NPN power switch. Minimize the metal trace area connected to this pin to minimize EMI. Tie one side of the primary of the transformer to this pin. The target output voltage (See Datasheet)", 5 SW (power) "Switch Pin. This is the collector of the internal NPN power switch. Minimize the metal trace area connected to this pin to minimize EMI. Tie one side of the primary of the transformer to this pin. The target output voltage (See Datasheet)", 6 IGBTOUT (out) "Output Drive for IGBT Gate. Connect this pin to the gate of the IGBT.", 7 IGBTIN (in) "Logic Input Pin for IGBT Drive. When this pin is driven higher than 1.5V, the IGBT output pin goes high. When the pin is below 0.3V, the output is low.", 8 IGBTPWR (power) "Input Supply Pin. Must be locally bypassed with a good quality ceramic capacitor. Input supply must be 0.1V higher than the turn-on voltage for the IGBT.", 9 ~{DONE} (oc) "Open NPN Collector Indication Pin. When target output voltage is reached, NPN turns on. This pin needs a pull-up resistor or current source.", 10 VMONT (power) "Supplies a voltage proportional to the output voltage where 1V is the end of charge voltage. Only valid while the part is charging.", 11 EP (power) "Ground. Tie directly to local ground plane"

## LT3485EDD-3#TR
designator U?
Photoflash Capacitor Chargers with Output Voltage Monitor and Integrated IGBT Drive, 10-pin SON (DD-10), -40 to 85 degC, Tape and Reel; Manufacturer: Linear Technology; PartNumber: LT3485EDD-3#TR; Number of Outputs: 1; PackageReference: DD-10; PackageDescription: 10-Pin Plastic DFN, Body 3 x 3 mm, Pitch 0.5 mm; RoHS: FALSE
footprint LT-DD-10_V (SON, 10-Leads, Body 3x3mm, Pitch 0.5mm, Thermal Pad 2.38x1.65mm)
pins: 1 CHARGE (in) "Charge Pin. A low (<0.3V) to high (>1V) transition on this pin puts the part into power delivery mode. Once the target voltage is reached, the part will stop charging the output. Toggle this pin to start charging again. (See Datasheet)", 2 VBAT (power) "Battery Supply Pin. Must be locally bypassed with a good quality ceramic capacitor. Battery supply must be 1.7V or higher.", 3 VIN (power) "Input Supply Pin. Must be locally bypassed with a good quality ceramic capacitor. Input supply must be 2.5V or higher.", 4 SW (power) "Switch Pin. This is the collector of the internal NPN power switch. Minimize the metal trace area connected to this pin to minimize EMI. Tie one side of the primary of the transformer to this pin. The target output voltage (See Datasheet)", 5 SW (power) "Switch Pin. This is the collector of the internal NPN power switch. Minimize the metal trace area connected to this pin to minimize EMI. Tie one side of the primary of the transformer to this pin. The target output voltage (See Datasheet)", 6 IGBTOUT (out) "Output Drive for IGBT Gate. Connect this pin to the gate of the IGBT.", 7 IGBTIN (in) "Logic Input Pin for IGBT Drive. When this pin is driven higher than 1.5V, the IGBT output pin goes high. When the pin is below 0.3V, the output is low.", 8 IGBTPWR (power) "Input Supply Pin. Must be locally bypassed with a good quality ceramic capacitor. Input supply must be 0.1V higher than the turn-on voltage for the IGBT.", 9 ~{DONE} (oc) "Open NPN Collector Indication Pin. When target output voltage is reached, NPN turns on. This pin needs a pull-up resistor or current source.", 10 VMONT (power) "Supplies a voltage proportional to the output voltage where 1V is the end of charge voltage. Only valid while the part is charging.", 11 EP (power) "Ground. Tie directly to local ground plane"

## LT3485EDD-3#TRPBF
designator U?
Photoflash Capacitor Chargers with Output Voltage Monitor and Integrated IGBT Drive, 10-pin SON (DD-10), -40 to 85 degC, Pb-Free, Tape and Reel; Manufacturer: Linear Technology; PartNumber: LT3485EDD-3#TRPBF; Number of Outputs: 1; PackageReference: DD-10; PackageDescription: 10-Pin Plastic DFN, Body 3 x 3 mm, Pitch 0.5 mm; Supplier 1: Digi-Key; Supplier Part Number 1: LT3485EDD-3#TRPBF-ND; RoHS: TRUE
footprint LT-DD-10_V (SON, 10-Leads, Body 3x3mm, Pitch 0.5mm, Thermal Pad 2.38x1.65mm)
pins: 1 CHARGE (in) "Charge Pin. A low (<0.3V) to high (>1V) transition on this pin puts the part into power delivery mode. Once the target voltage is reached, the part will stop charging the output. Toggle this pin to start charging again. (See Datasheet)", 2 VBAT (power) "Battery Supply Pin. Must be locally bypassed with a good quality ceramic capacitor. Battery supply must be 1.7V or higher.", 3 VIN (power) "Input Supply Pin. Must be locally bypassed with a good quality ceramic capacitor. Input supply must be 2.5V or higher.", 4 SW (power) "Switch Pin. This is the collector of the internal NPN power switch. Minimize the metal trace area connected to this pin to minimize EMI. Tie one side of the primary of the transformer to this pin. The target output voltage (See Datasheet)", 5 SW (power) "Switch Pin. This is the collector of the internal NPN power switch. Minimize the metal trace area connected to this pin to minimize EMI. Tie one side of the primary of the transformer to this pin. The target output voltage (See Datasheet)", 6 IGBTOUT (out) "Output Drive for IGBT Gate. Connect this pin to the gate of the IGBT.", 7 IGBTIN (in) "Logic Input Pin for IGBT Drive. When this pin is driven higher than 1.5V, the IGBT output pin goes high. When the pin is below 0.3V, the output is low.", 8 IGBTPWR (power) "Input Supply Pin. Must be locally bypassed with a good quality ceramic capacitor. Input supply must be 0.1V higher than the turn-on voltage for the IGBT.", 9 ~{DONE} (oc) "Open NPN Collector Indication Pin. When target output voltage is reached, NPN turns on. This pin needs a pull-up resistor or current source.", 10 VMONT (power) "Supplies a voltage proportional to the output voltage where 1V is the end of charge voltage. Only valid while the part is charging.", 11 EP (power) "Ground. Tie directly to local ground plane"

## LT3487EDD
designator U?
Boost and Inverting Switching Regulator for CCD Bias, 10-pin SON (DD-10), -40 to 85 degC; Manufacturer: Linear Technology; PartNumber: LT3487EDD; Number of Outputs: 2; PackageReference: DD-10; PackageDescription: 10-Pin Plastic DFN, Body 3 x 3 mm, Pitch 0.5 mm; RoHS: FALSE
footprint LT-DD-10_V (SON, 10-Leads, Body 3x3mm, Pitch 0.5mm, Thermal Pad 2.38x1.65mm)
pins: 1 CAP "Disconnect-PNP Emitter and Positive Schottky Cathode. Acts as an intermediate positive (boost) output. Connect boost output capacitor to this pin.", 2 SWP "Switch Pin and Schottky Anode for Positive Channel. Connect boost inductor to this pin.", 3 VBAT (power) "Battery Voltage. Connect this pin to the supply voltage for the boost inductor. The disconnect drive current is returned to this pin. The disconnect operates until CAP falls to 1.2V above VBAT.", 4 SWN "Switch Pin for Negative (Inverter) Channel. Connect inverter input inductor and flying capacitor here.", 5 DN "Anode of Internal Schottky for Inverter. Connect inverter output inductor and flying capacitor here.", 6 VIN (power) "Input Supply Pin. VIN is used to power the control circuitry of the LT3487. This pin must be locally bypassed with an X5R or X7R type ceramic capacitor", 7 FBN (in) "Feedback Pin for Inverter. Connect feedback resistor R2 from this pin to VNEG.", 8 RUN/SS (in) "Run/Soft-Start Pin. Connect to an opendrain transistor. The transistor must sink 1.4uA from RUN/SS. Pull RUN/SS below 100mV to shut down the chip. Connect a capacitor from RUN/SS to ground to program soft-start functionality.(See Datasheet)", 9 FBP (in) "Feedback Pin for Boost. Connect boost feedback resistor R1 from FBP to CAP.", 10 VPOS (power) "Output Pin for Boost Channel. VPOS is the collector of the output disconnect PNP. Connect the boost load to VPOS. Connect capacitor C5 between CAP and VPOS for stability.", 11 EP (power) "GND. Tie directly to ground plane through multiple vias under the package for optimum thermal performance."

## LT3487EDD#PBF
designator U?
Boost and Inverting Switching Regulator for CCD Bias, 10-pin SON (DD-10), -40 to 85 degC, Pb-Free; Manufacturer: Linear Technology; PartNumber: LT3487EDD#PBF; Number of Outputs: 2; PackageReference: DD-10; PackageDescription: 10-Pin Plastic DFN, Body 3 x 3 mm, Pitch 0.5 mm; Supplier 1: Digi-Key; Supplier Part Number 1: LT3487EDD#PBF-ND; RoHS: TRUE
footprint LT-DD-10_V (SON, 10-Leads, Body 3x3mm, Pitch 0.5mm, Thermal Pad 2.38x1.65mm)
pins: 1 CAP "Disconnect-PNP Emitter and Positive Schottky Cathode. Acts as an intermediate positive (boost) output. Connect boost output capacitor to this pin.", 2 SWP "Switch Pin and Schottky Anode for Positive Channel. Connect boost inductor to this pin.", 3 VBAT (power) "Battery Voltage. Connect this pin to the supply voltage for the boost inductor. The disconnect drive current is returned to this pin. The disconnect operates until CAP falls to 1.2V above VBAT.", 4 SWN "Switch Pin for Negative (Inverter) Channel. Connect inverter input inductor and flying capacitor here.", 5 DN "Anode of Internal Schottky for Inverter. Connect inverter output inductor and flying capacitor here.", 6 VIN (power) "Input Supply Pin. VIN is used to power the control circuitry of the LT3487. This pin must be locally bypassed with an X5R or X7R type ceramic capacitor", 7 FBN (in) "Feedback Pin for Inverter. Connect feedback resistor R2 from this pin to VNEG.", 8 RUN/SS (in) "Run/Soft-Start Pin. Connect to an opendrain transistor. The transistor must sink 1.4uA from RUN/SS. Pull RUN/SS below 100mV to shut down the chip. Connect a capacitor from RUN/SS to ground to program soft-start functionality.(See Datasheet)", 9 FBP (in) "Feedback Pin for Boost. Connect boost feedback resistor R1 from FBP to CAP.", 10 VPOS (power) "Output Pin for Boost Channel. VPOS is the collector of the output disconnect PNP. Connect the boost load to VPOS. Connect capacitor C5 between CAP and VPOS for stability.", 11 EP (power) "GND. Tie directly to ground plane through multiple vias under the package for optimum thermal performance."

## LT3487EDD#TR
designator U?
Boost and Inverting Switching Regulator for CCD Bias, 10-pin SON (DD-10), -40 to 85 degC, Tape and Reel; Manufacturer: Linear Technology; PartNumber: LT3487EDD#TR; Number of Outputs: 2; PackageReference: DD-10; PackageDescription: 10-Pin Plastic DFN, Body 3 x 3 mm, Pitch 0.5 mm; RoHS: FALSE
footprint LT-DD-10_V (SON, 10-Leads, Body 3x3mm, Pitch 0.5mm, Thermal Pad 2.38x1.65mm)
pins: 1 CAP "Disconnect-PNP Emitter and Positive Schottky Cathode. Acts as an intermediate positive (boost) output. Connect boost output capacitor to this pin.", 2 SWP "Switch Pin and Schottky Anode for Positive Channel. Connect boost inductor to this pin.", 3 VBAT (power) "Battery Voltage. Connect this pin to the supply voltage for the boost inductor. The disconnect drive current is returned to this pin. The disconnect operates until CAP falls to 1.2V above VBAT.", 4 SWN "Switch Pin for Negative (Inverter) Channel. Connect inverter input inductor and flying capacitor here.", 5 DN "Anode of Internal Schottky for Inverter. Connect inverter output inductor and flying capacitor here.", 6 VIN (power) "Input Supply Pin. VIN is used to power the control circuitry of the LT3487. This pin must be locally bypassed with an X5R or X7R type ceramic capacitor", 7 FBN (in) "Feedback Pin for Inverter. Connect feedback resistor R2 from this pin to VNEG.", 8 RUN/SS (in) "Run/Soft-Start Pin. Connect to an opendrain transistor. The transistor must sink 1.4uA from RUN/SS. Pull RUN/SS below 100mV to shut down the chip. Connect a capacitor from RUN/SS to ground to program soft-start functionality.(See Datasheet)", 9 FBP (in) "Feedback Pin for Boost. Connect boost feedback resistor R1 from FBP to CAP.", 10 VPOS (power) "Output Pin for Boost Channel. VPOS is the collector of the output disconnect PNP. Connect the boost load to VPOS. Connect capacitor C5 between CAP and VPOS for stability.", 11 EP (power) "GND. Tie directly to ground plane through multiple vias under the package for optimum thermal performance."